# Altium integrated library Relay12V10A.IntLib: 1 symbol
Pins are listed as number, name and electrical type; pins without a type are passive.

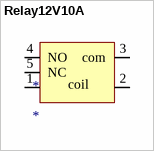
[diagram p0: symbol Relay12V10A]

## Relay12V10A
designator *
footprint Relay12V10A
pins: 1, 2 1, 3 com, 4 NO, 5 NC
text: coil